# Altium schematic symbol library Conn_Wurth_61300611121_eec.SchLib: 1 symbol
Pins are listed as number, name and electrical type; pins without a type are passive.

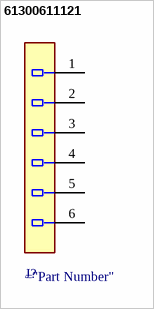
[diagram p0: symbol 61300611121]

## 61300611121
designator J?  (value not drawn)
pins: 1, 2, 3, 4, 5, 6